# EAGLE library part ADAPT_QFN/P32 (library MDB_HOMEBAK)
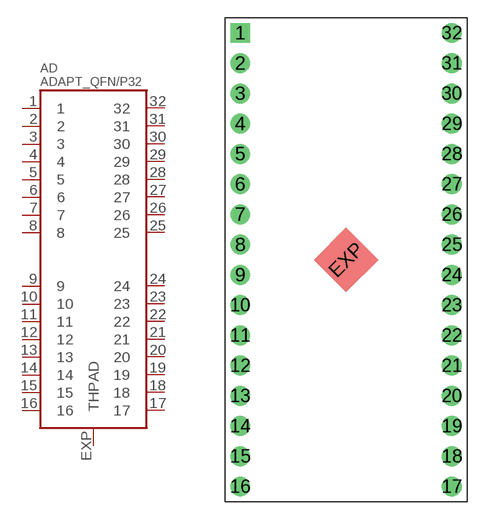
[diagram p52: symbol with the pads of ADAPTER_QFN_QFP32; footprint ADAPTER_QFN_QFP32]

Designator prefix AD

## ADAPT_QFN/P32  [ADAPTER_QFN_QFP32]
1  1
2  2
3  3
4  4
5  5
6  6
7  7
8  8
9  9
10  10
11  11
12  12
13  13
14  14
15  15
16  16
17  17
18  18
19  19
20  20
21  21
22  22
23  23
24  24
25  25
26  26
27  27
28  28
29  29
30  30
31  31
32  32
EXP  THPAD

## Footprint ADAPTER_QFN_QFP32 (pad centres in mm)
drill 0.9 pad 1.676 square: 1 -8.89,19.05
drill 0.9 pad 1.676: 2 -8.89,16.51; 3 -8.89,13.97; 4 -8.89,11.43; 5 -8.89,8.89; 6 -8.89,6.35; 7 -8.89,3.81; 8 -8.89,1.27; 9 -8.89,-1.27; 10 -8.89,-3.81; 11 -8.89,-6.35; 12 -8.89,-8.89; 13 -8.89,-11.43; 14 -8.89,-13.97; 15 -8.89,-16.51; 16 -8.89,-19.05; 17 8.89,-19.05; 18 8.89,-16.51; 19 8.89,-13.97; 20 8.89,-11.43; 21 8.89,-8.89; 22 8.89,-6.35; 23 8.89,-3.81; 24 8.89,-1.27; 25 8.89,1.27; 26 8.89,3.81; 27 8.89,6.35; 28 8.89,8.89; 29 8.89,11.43; 30 8.89,13.97; 31 8.89,16.51; 32 8.89,19.05
smd 3.81 x 3.81 rotated 45: EXP 0,0